# Altium integrated library digital_power.IntLib: 41 symbols
Pins are listed as number, name and electrical type; pins without a type are passive.

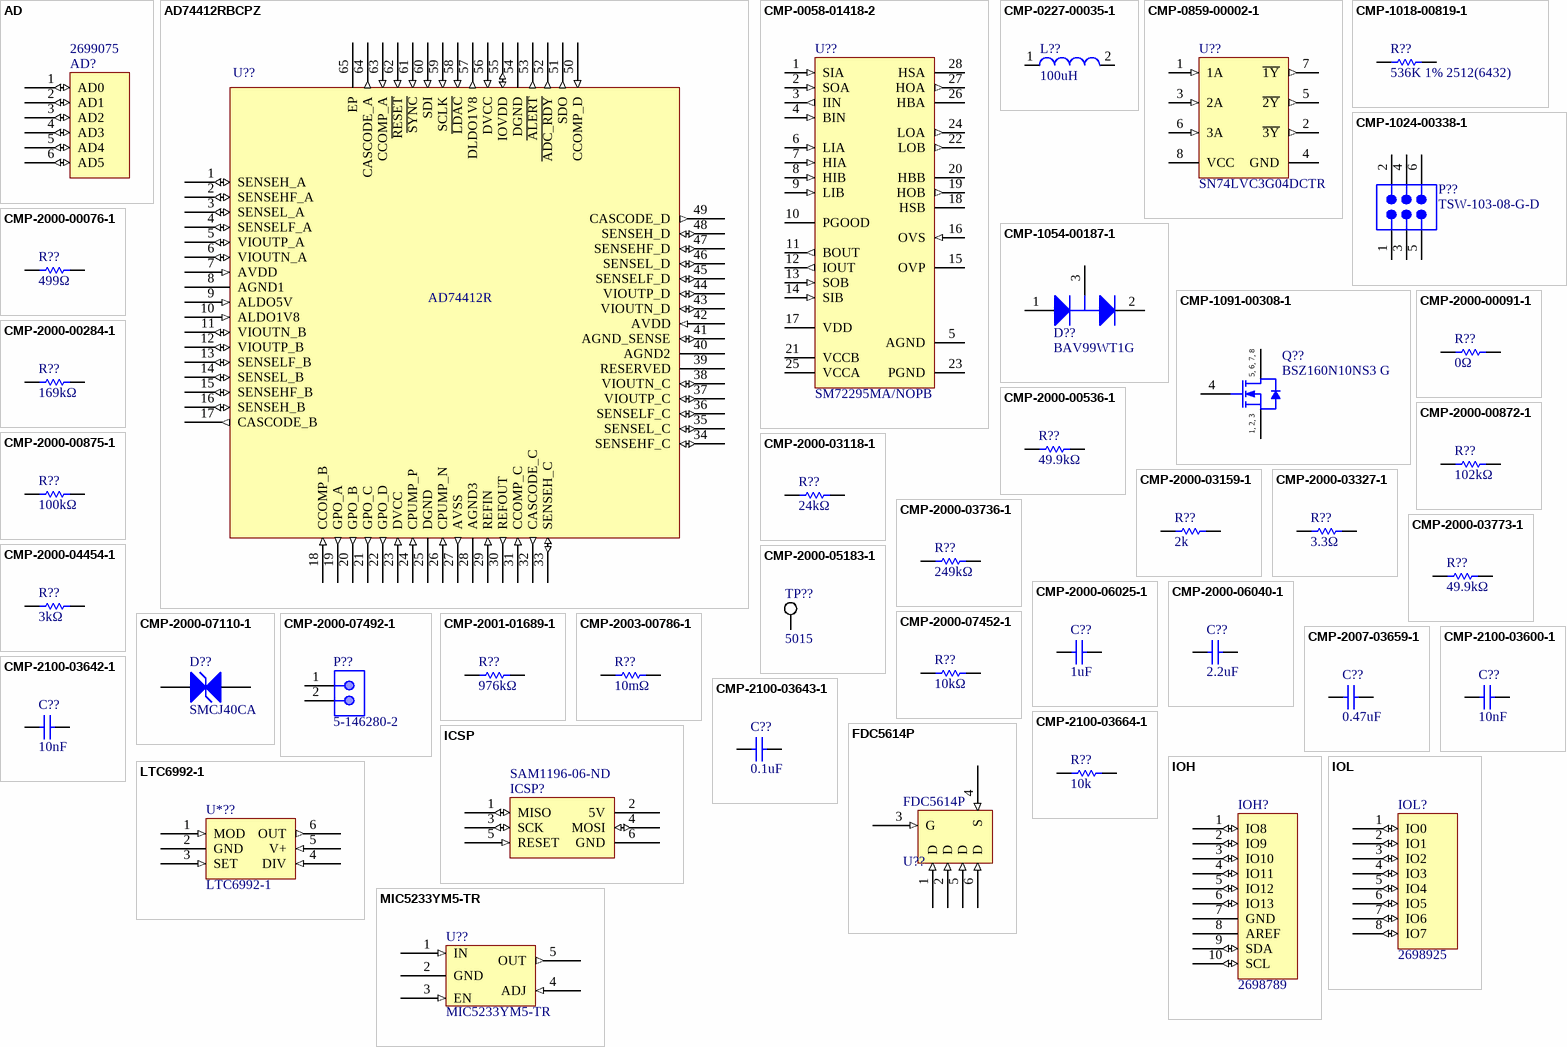
[diagram p0: symbols AD to MIC5233YM5-TR]

## AD
designator AD?  Supplier Part Number 4: 2699075  (hidden comment: AD)
Supplier 1: Arrow; Supplier Part Number 1: 2699089; Supplier 2: Digi-Key; Supplier Part Number 2: SAM1198-06-ND; Supplier 3: Arrow; Supplier Part Number 3: 2699088; Supplier 4: Arrow
footprint Header 6x1 8.5mm (Stackable 6 pin header)
pins: 1 AD0 (io), 2 AD1 (io), 3 AD2 (io), 4 AD3 (io), 5 AD4 (io), 6 AD5 (io)

## AD74412RBCPZ
designator U??, comment AD74412R
Manufacturer 1: Analog Devices; Manufacturer Part Number 1: AD74412RBCPZ; Supplier 1: Digi-Key; Stock 1: 0; Pricing 1: 1=15.06000, 10=13.84000, 25=13.26640, 100=11.68870, 250=11.11504, 500=10.39796, 1000=9.53743 (USD); RoHS: No; Supplier Part Number 1: 505-AD74412RBCPZ-ND
pins: 1 SENSEH_A (io), 2 SENSEHF_A (io), 3 SENSEL_A (io), 4 SENSELF_A (io), 5 VIOUTP_A (io), 6 VIOUTN_A (io), 7 AVDD (in), 8 AGND1 (power), 9 ALDO5V (in), 10 ALDO1V8 (in), 11 VIOUTN_B (io), 12 VIOUTP_B (io), 13 SENSELF_B (io), 14 SENSEL_B (io), 15 SENSEHF_B (io), 16 SENSEH_B (io), 17 CASCODE_B (out), 18 CCOMP_B (in), 19 GPO_A (out), 20 GPO_B (out), 21 GPO_C (out), 22 GPO_D (out), 23 DVCC (in), 24 CPUMP_P (in), 25 DGND (power), 26 CPUMP_N (in), 27 AVSS (out), 28 AGND3 (power), 29 REFIN (in), 30 REFOUT (out), 31 CCOMP_C (in), 32 CASCODE_C (out), 33 SENSEH_C (io), 34 SENSEHF_C (io), 35 SENSEL_C (io), 36 SENSELF_C (io), 37 VIOUTP_C (io), 38 VIOUTN_C (io), 39 RESERVED (power), 40 AGND2 (power), 41 AGND_SENSE (io), 42 AVDD (in), 43 VIOUTN_D (io), 44 VIOUTP_D (io), 45 SENSELF_D (io), 46 SENSEL_D (io), 47 SENSEHF_D (io), 48 SENSEH_D (io), 49 CASCODE_D (out), 50 CCOMP_D (in), 51 SDO (out), 52 ~{ADC_RDY} (out), 53 ~{ALERT} (out), 54 DGND (power), 55 IOVDD (io), 56 DVCC (in), 57 DLDO1V8 (out), 58 ~{LDAC} (in), 59 SCLK (in), 60 SDI (in), 61 ~{SYNC} (in), 62 ~{RESET} (in), 63 CCOMP_A (in), 64 CASCODE_A (out), 65 EP (power)

## CMP-0058-01418-2
designator U??, comment SM72295MA/NOPB
Photovoltaic Full Bridge Driver, 28-pin Wide SOIC, 26 Rail; Manufacturer: Texas Instruments; Manufacturer 1: TI National Semiconductor; CompType: Interface IC; PackageTopMarking: NSUZXYTTE#*S72295; PowerWise: N; High-Reliability: Y; ComponentLink1Description: Datasheet URL; ComponentLink1URL: http://www.ti.com/general/docs/lit/getliterature.tsp?genericPartNumber=SM72295&fileType=pdf; PackageDescription: Molded Package, S.O., .300in Wide, 28 Lead; PinCount: 28; PartNumber: SM72295MA/NOPB; PackageReference: DW0028A; RoHS: Y; Manufacturer Part Number 1: SM72295MA/NOPB
footprint DW0028A_N (SOIC, 28-Leads, Body 18.1x7.6mm, Pitch 1.27mm, IPC Medium Density)
footprint DW0028A_L (SOIC, 28-Leads, Body 18.1x7.6mm, Pitch 1.27mm, IPC High Density)
footprint DW0028A_M (SOIC, 28-Leads, Body 18.1x7.6mm, Pitch 1.27mm, IPC Low Density)
pins: 1 SIA (in) "Sense high input for input current sense transconductance amplifier", 2 SOA (in) "Sense low input for input current sense transconductance amplifier", 3 IIN (out) "Output for current sense transconductance amplifier", 4 BIN (in) "Buffered IIN", 5 AGND (power) "Analog ground", 6 LIA (in) "Low side driver control input", 7 HIA (in) "High side driver control input", 8 HIB (in) "High side driver control input", 9 LIB (in) "Low side driver control input", 10 PGOOD (oc) "Power good indicator output", 11 BOUT (out) "Buffered IOUT", 12 IOUT (out) "Output for current sense comparator.", 13 SOB (in) "Sense low input for output current sense amplifier", 14 SIB (in) "Sense high input for output current sense amplifier", 15 OVP (oc) "Over voltage indicator output", 16 OVS (in) "Sense input for over voltage", 17 VDD (power) "3.3V or 5V regulator output", 18 HSB "High side MOSFET source connection", 19 HOB (out) "High side gate driver output", 20 HBB "High side gate driver bootstrap rail.", 21 VCCB (power) "Positive gate drive supply", 22 LOB (out) "Low side gate driver output", 23 PGND (power) "Power ground return", 24 LOA (out) "Low side gate driver output", 25 VCCA (power) "Positive gate drive supply", 26 HBA "High side gate driver bootstrap rail.", 27 HOA (out) "High side gate driver output", 28 HSA "High side MOSFET source connection"

## CMP-0227-00035-1
designator L??, comment 100uH
SMD-Shielded Power Inductor WE-PD, L = 100 µH; Manufacturer 1: Wurth Electronics; Manufacturer Part Number 1: 7447709101; Inductance: 100 ÂµH; ComponentLink2Description: Datasheet; DatasheetVersion: ver 1, Oct-2004; PackageDescription: SMD Inductor, 2-Leads, Body 12.0 x 12.0 mm; ComponentLink1URL: http://www.we-online.com; PackageVersion: 2004; PackageReference: WE-PD-XXL; ComponentLink2URL: http://www.we-online.de/katalog/media/pdf/7447709101.pdf; ComponentLink1Description: Manufacturer Link
footprint WE-PD-XXL (SMD Inductor, 2-Leads, Body 12.0x12.0x10.0 mm)
pins: 1, 2

## CMP-0859-00002-1
designator U??, comment SN74LVC3G04DCTR
Triple Inverter Gate, 1.65 to 5.5 V, -40 to 125 degC, 8-Pin DCT, Green (RoHS & no Sb/Br), Tape and Reel; Manufacturer: Texas Instruments; VCC (Max): 5.5 V; tpd @ Nom Voltage (Max): 4.1 ns; ICC @ Nom Voltage (Max): 0.01 mA; F @ Nom Voltage (Max): 150 MHz; Bits: 3; VCC (Min): 1.65 V; PackageDescription: 8-Pin Plastic Small Outline, Body 2.95 x 2.8 mm, Pitch 0.65 mm; Mounting Technology: Surface Mount; ComponentLink2URL: http://www.ti.com/lit/ds/symlink/sn74lvc3g04.pdf; PartNumber: SN74LVC3G04DCTR; ComponentLink2Description: Datasheet; Packing: Tape and Reel; ComponentLink1URL: http://www.ti.com/; DatasheetVersion: SCES363L; ComponentLink1Description: Manufacturer URL; RoHS: TRUE; Operating Temperature Range: -40 to 125 degC; PackageReference: DCT-8; Manufacturer 1: Texas Instruments; Manufacturer Part Number 1: SN74LVC3G04DCTR
footprint TI-DCT8_V (SOP, 8-Leads, Body 2.95x2.8mm, Pitch 0.65mm)
pins: 1 1A (in), 2 ~{3Y} (out), 3 2A (in), 4 GND (power), 5 ~{2Y} (out), 6 3A (in), 7 ~{1Y} (out), 8 VCC (power)

## CMP-1018-00819-1
designator R??, comment 536K 1% 2512(6432)
536K 1W 1% 2512 (6432 Metric)  SMD; Manufacturer 1: Panasonic; Manufacturer Part Number 1: ERJ-1TNF5363U; Value: 536000.00 Ohm; Case-Metric: 6432; Case-EIA: 2512; Power: 1 W; Tolerance: 1 %; Technology: SMT; Manufacturer 2: Bourns; Manufacturer Part Number 2: CR2512FX5363ELF; Manufacturer 3: Vishay Dale; Manufacturer Part Number 3: CRCW2512536KFKTG; Manufacturer 4: Vishay; Manufacturer Part Number 4: CRCW2512536KFKTH; Manufacturer 5: Vishay Dale; Manufacturer Part Number 5: CRCW2512536KFKEG
footprint RESC2512(6432)_N (Chip Resistor, Body 6.4x3.2mm, IPC Medium Density)
footprint RESC2512(6432)_M (Chip Resistor, Body 6.4x3.2mm, IPC Low Density)
footprint RESC2512(6432)_L (Chip Resistor, Body 6.4x3.2mm, IPC High Density)
pins: 1, 2
1 alternate drawing of the same symbol

## CMP-1024-00338-1
designator P??, comment TSW-103-08-G-D
0.025" SQ Post Header, Through-hole, Vertical, -55 to 125 degC, 2.54 mm Pitch, 6-Pin, Male, RoHS; Manufacturer: Samtec; Pitch: 2.54 mm; ComponentLink1URL: http://www.samtec.com; ComponentLink2URL: http://www.samtec.com/documents/webfiles/pdf/TSW_TH.PDF; Temperature Range: -55 to 125 degC; RoHS: True; ComponentLink2Description: Datasheet; PackageReference: TSW-103-08-X-D; ComponentLink3Description: Package Specification; PackageDescription: .025[0.64] SQ. Post Terminal Strip Assembly; DatasheetVersion: F-214; Mounting Technology: Through-hole; ComponentLink1Description: Manufacturer URL; Orientation: Vertical; PartNumber: TSW-103-08-G-D; PackageVersion: DM, 8/1988; ComponentLink3URL: http://www.samtec.com/documents/webfiles/cpdf/TSW-XXX-XX-XXX-X-XX-XXX-MKT.pdf; Manufacturer 1: Samtec; Manufacturer Part Number 1: TSW-103-08-G-D
footprint SMTC-TSW-103-08-X-D (.025 SQ Post Terminal Strip Assembly, 2x3 Pins, Vertical, 2.54mm Pitch, Male)
pins: 1, 2, 3, 4, 5, 6

## CMP-1054-00187-1
designator D??, comment BAV99WT1G
Dual Series Switching Diodes, 3-Pin SOT-323, Pb-Free, Tape and Reel; Manufacturer: On Semiconductor; Manufacturer 1: ON Semiconductor / Fairchild; trr Max (ns): 6; IF Max (A): 0.215; Configuration: Dual Series; ComponentLink1Description: Manufacturer URL; ComponentLink1URL: http://www.onsemi.com/; ComponentLink2Description: Datasheet; PackageDescription: 3-Pin Small Outline Transistor, Body 2 x 1.25 mm, Pitch 0.65 mm; PackageReference: SOT-323-3-419-04; ComponentLink3URL: http://www.onsemi.com/pub_link/Collateral/419-04.PDF; Packing: Tape and Reel; ComponentLink3Description: Package Specification; DatasheetVersion: Rev. 7; RoHS: TRUE; ComponentLink2URL: http://www.onsemi.cn/pub_link/Collateral/BAV99WT1-D.PDF; Mounting Technology: Surface Mount; PartNumber: BAV99WT1G; PackageVersion: Rev. N, 11/2008; Manufacturer Part Number 1: BAV99WT1G
footprint ONSC-SOT-323-3-419-04_V (SOT23, 3-Leads, Body 2x1.25mm, Pitch 0.65mm)
pins: 1 A, 2 K, 3 K/A

## CMP-1091-00308-1
designator Q??, comment BSZ160N10NS3 G
N-Channel OptiMOS 3 Power-Transistor, 100 V VDS, 40 A ID, -55 to 150 degC, PG-TSDSON-8-1, Reel, Green; Manufacturer: Infineon; VGS(th) (min): 2Â V; VDS (max): 100Â V; IDpuls (max): 160Â A; Ptot (max): 63Â W; RthJC (max): 2.1Â K/W; RthJA (max): 62 K/W; ID (max): 40Â A; RDS (on) (max): 16Â mOhm; VGS(th) (max): 3.5Â V; QG: 19Â nC; Green: TRUE; Polarity: N; Halogen-free: TRUE; ComponentLink3URL: http://www.infineon.com/dgdl/BSZ240N12NS3+Rev2.0.pdf?folderId=db3a304313b8b5a60113cee8763b02d7&fileId=db3a30432a40a650012a42f3057a0038; PackageReference: PG-TSDSON-8-1; PartNumber: BSZ160N10NS3 G; Packing: Reel; Mounting Technology: Surface Mount; Rth: 2.1Â K/W; PackageVersion: Rev. 02, 09/2008; DatasheetVersion: Rev. 1.2; ComponentLink3Description: Package Specification; ComponentLink2URL: http://www.infineon.com/dgdl/BSZ160N10N3SG_rev1.2.pdf?folderId=db3a304313b8b5a60113cee8763b02d7&fileId=db3a304320896aa20120c3365eef2370; ComponentLink1Description: Manufacturer URL; ComponentLink2Description: Datasheet; ComponentLink1URL: http://www.infineon.com/; PackageDescription: 8-Pin Plastic (Green) Thin Dual Small Outline Non-Leaded Package, 3.3 x 3.3 mm Body, 0.65 mm Pitch; Manufacturer 1: Infineon; Manufacturer Part Number 1: BSZ160N10NS3G
footprint INF-PG-TSDSON-8-1_V (TSDSON, 8-Leads, Body 3.3x3.3mm, Pitch 0.65mm)
pins: 1 SOURCE, 2 SOURCE, 3 SOURCE, 4 GATE, 5 DRAIN, 6 DRAIN, 7 DRAIN, 8 DRAIN
text: 5, 6, 7, 8; 1, 2, 3

## CMP-2000-00076-1
designator R??, comment 499Ω
ERA3AEB4990V; Manufacturer: Panasonic; Manufacturer Part Number 1: ERA-3AEB4990V; Part Number: ERA3AEB4990V; Manufacturer 1: Panasonic
footprint RESC1608X55X30LL20T20 (Chip Resistor, 2-Leads, Body 1.60x0.80mm, IPC High Density)
footprint RESC1608X55X30ML20T20 (Chip Resistor, 2-Leads, Body 1.60x0.80mm, IPC Low Density)
footprint RESC1608X55X30NL20T20 (Chip Resistor, 2-Leads, Body 1.60x0.80mm, IPC Medium Density)
pins: 1, 2
1 alternate drawing of the same symbol

## CMP-2000-00091-1
designator R??, comment 0Ω
ERA3AEB561V; Manufacturer: Panasonic; Part Number: ERA3AEB561V; Manufacturer 1: Panasonic; Manufacturer Part Number 1: ERA3AEB561V
footprint RESC1608X55X30LL20T20 (Chip Resistor, 2-Leads, Body 1.60x0.80mm, IPC High Density)
footprint RESC1608X55X30NL20T20 (Chip Resistor, 2-Leads, Body 1.60x0.80mm, IPC Medium Density)
footprint RESC1608X55X30ML20T20 (Chip Resistor, 2-Leads, Body 1.60x0.80mm, IPC Low Density)
pins: 1, 2
1 alternate drawing of the same symbol

## CMP-2000-00284-1
designator R??, comment 169kΩ
ERJ-3EKF1693V; Manufacturer: Panasonic; Part Number: ERJ-3EKF1693V; Manufacturer 1: Panasonic; Manufacturer Part Number 1: ERJ-3EKF1693V
footprint RESC1608X55X30ML15T15 (Chip Resistor, 2-Leads, Body 1.60x0.80mm, IPC Low Density)
footprint RESC1608X55X30NL15T15 (Chip Resistor, 2-Leads, Body 1.60x0.80mm, IPC Medium Density)
footprint RESC1608X55X30LL15T15 (Chip Resistor, 2-Leads, Body 1.60x0.80mm, IPC High Density)
pins: 1, 2
1 alternate drawing of the same symbol

## CMP-2000-00536-1
designator R??, comment 49.9kΩ
ERJ-3EKF4992V; Manufacturer: Panasonic; Part Number: ERJ-3EKF4992V; Manufacturer 1: Panasonic; Manufacturer Part Number 1: ERJ-3EKF4992V
footprint RESC1608X55X30ML15T15 (Chip Resistor, 2-Leads, Body 1.60x0.80mm, IPC Low Density)
footprint RESC1608X55X30NL15T15 (Chip Resistor, 2-Leads, Body 1.60x0.80mm, IPC Medium Density)
footprint RESC1608X55X30LL15T15 (Chip Resistor, 2-Leads, Body 1.60x0.80mm, IPC High Density)
pins: 1, 2
1 alternate drawing of the same symbol

## CMP-2000-00872-1
designator R??, comment 102kΩ
ERA3AEB1023V; Manufacturer: Panasonic; Manufacturer Part Number 1: ERA-3AEB1023V; Part Number: ERA3AEB1023V; Manufacturer 1: Panasonic
footprint RESC1608X55X30NL20T20 (Chip Resistor, 2-Leads, Body 1.60x0.80mm, IPC Medium Density)
footprint RESC1608X55X30LL20T20 (Chip Resistor, 2-Leads, Body 1.60x0.80mm, IPC High Density)
footprint RESC1608X55X30ML20T20 (Chip Resistor, 2-Leads, Body 1.60x0.80mm, IPC Low Density)
pins: 1, 2
1 alternate drawing of the same symbol

## CMP-2000-00875-1
designator R??, comment 100kΩ
ERA3AEB104V; Manufacturer: Panasonic; Manufacturer Part Number 1: ERA-3AEB104V; Part Number: ERA3AEB104V; Manufacturer 1: Panasonic
footprint RESC1608X55X30ML20T20 (Chip Resistor, 2-Leads, Body 1.60x0.80mm, IPC Low Density)
footprint RESC1608X55X30LL20T20 (Chip Resistor, 2-Leads, Body 1.60x0.80mm, IPC High Density)
footprint RESC1608X55X30NL20T20 (Chip Resistor, 2-Leads, Body 1.60x0.80mm, IPC Medium Density)
pins: 1, 2
1 alternate drawing of the same symbol

## CMP-2000-03118-1
designator R??, comment 24kΩ
CRCW060324K0FKEA; Manufacturer: Vishay Dale; Manufacturer 1: Vishay; Part Number: CRCW060324K0FKEA; Manufacturer Part Number 1: CRCW060324K0FKEA
footprint RESC1609X50X30NL10T20 (Chip Resistor, 2-Leads, Body 1.55x0.85mm, IPC Medium Density)
footprint RESC1609X50X30LL10T20 (Chip Resistor, 2-Leads, Body 1.55x0.85mm, IPC High Density)
footprint RESC1609X50X30ML10T20 (Chip Resistor, 2-Leads, Body 1.55x0.85mm, IPC Low Density)
pins: 1, 2
1 alternate drawing of the same symbol

## CMP-2000-03159-1
designator R??, comment 2k
CRCW06032K00FKEA; Manufacturer: Vishay Dale; Manufacturer 1: Vishay; Part Number: CRCW06032K00FKEA; Manufacturer Part Number 1: CRCW06032K00FKEA
footprint RESC1609X50X30ML10T20 (Chip Resistor, 2-Leads, Body 1.55x0.85mm, IPC Low Density)
footprint RESC1609X50X30LL10T20 (Chip Resistor, 2-Leads, Body 1.55x0.85mm, IPC High Density)
footprint RESC1609X50X30NL10T20 (Chip Resistor, 2-Leads, Body 1.55x0.85mm, IPC Medium Density)
pins: 1, 2
1 alternate drawing of the same symbol

## CMP-2000-03327-1
designator R??, comment 3.3Ω
CRCW06033R30FNEA; Manufacturer: Vishay Dale; Part Number: CRCW06033R30FNEA; Manufacturer 1: Vishay Dale; Manufacturer Part Number 1: CRCW06033R30FNEA
footprint RESC1609X50X30LL10T20 (Chip Resistor, 2-Leads, Body 1.55x0.85mm, IPC High Density)
footprint RESC1609X50X30NL10T20 (Chip Resistor, 2-Leads, Body 1.55x0.85mm, IPC Medium Density)
footprint RESC1609X50X30ML10T20 (Chip Resistor, 2-Leads, Body 1.55x0.85mm, IPC Low Density)
pins: 1, 2
1 alternate drawing of the same symbol

## CMP-2000-03736-1
designator R??, comment 249kΩ
TNPW0603249KBEEA; Manufacturer: Vishay Dale; Part Number: TNPW0603249KBEEA; Manufacturer 1: Vishay Dale; Manufacturer Part Number 1: TNPW0603249KBEEA
footprint RESC1609X55X30LL10T20 (Chip Resistor, 2-Leads, Body 1.60x0.85mm, IPC High Density)
footprint RESC1609X55X30ML10T20 (Chip Resistor, 2-Leads, Body 1.60x0.85mm, IPC Low Density)
footprint RESC1609X55X30NL10T20 (Chip Resistor, 2-Leads, Body 1.60x0.85mm, IPC Medium Density)
pins: 1, 2
1 alternate drawing of the same symbol

## CMP-2000-03773-1
designator R??, comment 49.9kΩ
TNPW060349K9BEEN; Manufacturer: Vishay Dale; Part Number: TNPW060349K9BEEN; Manufacturer 1: Vishay Dale; Manufacturer Part Number 1: TNPW060349K9BEEN
footprint RESC1609X55X30ML10T20 (Chip Resistor, 2-Leads, Body 1.60x0.85mm, IPC Low Density)
footprint RESC1609X55X30LL10T20 (Chip Resistor, 2-Leads, Body 1.60x0.85mm, IPC High Density)
footprint RESC1609X55X30NL10T20 (Chip Resistor, 2-Leads, Body 1.60x0.85mm, IPC Medium Density)
pins: 1, 2
1 alternate drawing of the same symbol

## CMP-2000-04454-1
designator R??, comment 3kΩ
RT0603BRD073KL; Manufacturer: Yageo; Part Number: RT0603BRD073KL; Manufacturer 1: Yageo; Manufacturer Part Number 1: RT0603BRD073KL
footprint RESC1608X55X25ML10T15 (Chip Resistor, 2-Leads, Body 1.60x0.80mm, IPC Low Density)
footprint RESC1608X55X25NL10T15 (Chip Resistor, 2-Leads, Body 1.60x0.80mm, IPC Medium Density)
footprint RESC1608X55X25LL10T15 (Chip Resistor, 2-Leads, Body 1.60x0.80mm, IPC High Density)
pins: 1, 2
1 alternate drawing of the same symbol

## CMP-2000-05183-1
designator TP??, comment 5015
Test Point, White, SMT; Manufacturer: Keystone; Manufacturer 1: Keystone Electronics; Primary Type: PCBTestPoints; Style: Miniature; Finish Plating: SilverPlate; Material, Contact: PhosphorBronze; Material: PhosphorBronze; Datasheet URL: https://datasheet.ciiva.com/1123/5015-1123862.pdf; Thickness: 0.010In.; Manufacturer URL: http://www.keyelco.com/; Length: 0.105"(2.667mm); Datasheet Version: Mar-14; Contact Plating: Silver; Mounting Type: SurfaceMount; Termination: SMT; Type: TestPointsonTapeandReel; Height: 0.06In.; Mounting: SurfaceMount; Manufacturer Part Number 1: 5015
footprint KSTN-5015_V (SMD, Body 2.63x1.02mm)
pins: 1

## CMP-2000-06025-1
designator C??, comment 1uF
C1608X5R1H105K080AB- Chip Capacitor, 1 uF, +/- 10%, 50 V, -55 to 85 degC, 0603 (1608 Metric), RoHS, Tape and Reel; Manufacturer: TDK; PCN Part Number: MLCCPartNumberChange30/Nov/2012; Other Names: 445-7468-6; Online Catalog: CSeries,GeneralPurpose; Capacitance: 1µF; Product Training Modules: CSeriesGeneralApplicationsSEAT,CCV,andTVCLDesignToolsGuidetoReplacinganElectrolyticCapacitorwithanMLCC; Voltage - Rated: 50V; Design Resources: 20WNon-IsolatedBuckLEDDriverUsingPLLNK460KG; Temperature Coefficient: X5R; Series: C; Datasheet Version: 08/2016; Package Description: 2-Pin Surface Mount Device, Body 1.6 x 0.8 mm; Mounting Technology: SurfaceMount; Features: -; Size / Dimension: 0.063"Lx0.031"W(1.60mmx0.80mm); Lead Spacing: -; Operating Temperature: -55°C~85°C; Tolerance: ±10%; Height - Seated (Max): -; Mounting Type: SurfaceMount,MLCC; Ratings: -; Standard Package: 1; Applications: GeneralPurpose; Datasheet URL: https://product.tdk.com/info/en/catalog/datasheets/mlcc_commercial_general_en.pdf; Category: Capacitors; Lead Style: -; Packaging: Digi-Reel®; RoHS Information: RoHSCertificate-MLCC; Package / Case: 0603(1608Metric); Package Reference: 0603; Manufacturer URL: http://www.tdk.com/; Thickness (Max): 0.035"(0.90mm); Family: CeramicCapacitors; Manufacturer 1: TDK; Manufacturer Part Number 1: C1608X5R1H105K080AB
footprint CAPC1608X90X20LL10 (Chip Capacitor, 2-Leads, Body 1.70x0.90mm, IPC High Density)
footprint CAPC1608X90X20ML10 (Chip Capacitor, 2-Leads, Body 1.70x0.90mm, IPC Low Density)
footprint CAPC1608X90X20NL10 (Chip Capacitor, 2-Leads, Body 1.70x0.90mm, IPC Medium Density)
pins: 1, 2

## CMP-2000-06040-1
designator C??, comment 2.2uF
C2012X7R1H225K125AC -Chip Capacitor, 2.2 uF, +/- 10%, 50 V, -55 to 125 degC, 0805 (2012 Metric), RoHS, Tape and Reel; Manufacturer: TDK; PCN Part Number: MLCCPartNumberChange30/Nov/2012; Other Names: 445-5968-1; Temperature Coefficient: X7R; Catalog Drawings: CSERIES_2012-0805_1.45; Kits: 445-9015-KIT-ND-KITMLCC1000PF-47UF080510-50V445-9003-KIT-ND-KITCAPCERHICAPMLCCSMD445-173086-KIT-ND-C0402-2220X7R6.3-50V1,000PF-; Online Catalog: CSeries,GeneralPurpose; Voltage - Rated: 50V; Capacitance: 2.2µF; Product Training Modules: CSeriesGeneralApplicationsSEAT,CCV,andTVCLDesignToolsGuidetoReplacinganElectrolyticCapacitorwithanMLCC; Operating Temperature: -55°C~125°C; Features: -; Tolerance: ±10%; Datasheet URL: https://datasheet.ciiva.com/24216/c2012x7r1h225k125ac-265016-24216364.pdf; Lead Style: -; Size / Dimension: 0.079"Lx0.049"W(2.00mmx1.25mm); Mounting Technology: SurfaceMount; Package Reference: 0805; Thickness (Max): 0.057"(1.45mm); RoHS Information: RoHSCertificate-MLCC; Height - Seated (Max): -; Manufacturer URL: http://www.tdk.com/; Standard Package: 1; Category: Capacitors; Package Description: 2-Pin Surface Mount Device, Body 2 x 1.25 mm; Packaging: CutTape(CT); Series: C; Applications: GeneralPurpose; Package / Case: 0805(2012Metric); Ratings: -; Datasheet Version: 09/2013; Family: CeramicCapacitors; Mounting Type: SurfaceMount,MLCC; Lead Spacing: -; Manufacturer 1: TDK; Manufacturer Part Number 1: C2012X7R1H225K125AC
footprint CAPC2013X145X20LL20 (Chip Capacitor, 2-Leads, Body 2.20x1.45mm, IPC High Density)
footprint CAPC2013X145X20ML20 (Chip Capacitor, 2-Leads, Body 2.20x1.45mm, IPC Low Density)
footprint CAPC2013X145X20NL20 (Chip Capacitor, 2-Leads, Body 2.20x1.45mm, IPC Medium Density)
pins: 1, 2

## CMP-2000-07110-1
designator D??, comment SMCJ40CA
Transient Voltage Suppressor, 1500 W, 40 V, 2-Pin SMD, RoHS, Tape and Reel; Manufacturer: Fairchild Semiconductor; Manufacturer 1: Littelfuse; Type: TRANSVOLTAGESUPPRESSORDIODE; Breakdown Voltage-Max (V): 49.1; Number of Elements: 1; Breakdown Voltage-Min (V): 44.4; Non-rep Peak Rev Power Dis-Max (W): 1500; Additional Feature: ULRECOGNIZED; Diode Element Material: SILICON; Configuration: SINGLE; Package Body Material: PLASTIC/EPOXY; Polarity: BIDIRECTIONAL; JEDEC-95 Code: DO-214AB; CAGE Code: 1HBD3,07933,59621,7D893; Number of Terminals: 2; Package Description: 2-Pin Surface Mount Device, Body 6.875 x 5.9 mm; Terminal Position: DUAL; Terminal Finish: MATTETIN; Package Style: SMALLOUTLINE; Datasheet Version: Rev. 5.7, 09/2015; Datasheet URL: https://www.fairchildsemi.com/datasheets/SM/SMCJ40CA.pdf; Technology: AVALANCHE; Peak Reflow Temperature (Cel): 260; Manufacturer URL: https://www.fairchildsemi.com/; RoHS Compliant: YES; JESD-30 Code: R-PDSO-C2; Moisture Sensitivity Level: 1; Package Shape: RECTANGULAR; Terminal Form: CBEND; Mounting Technology: SurfaceMount; Lead Free: YES; Package Reference: DO-214AB; Surface Mount: YES; JESD-97 Code: e3; Manufacturer Part Number 1: SMCJ40CA
footprint FAIR-DO-214AB-A-2_V (Molded Diode, 2-Leads, Body 7.15x6.25mm)
pins: 1 A, 2 A

## CMP-2000-07452-1
designator R??, comment 10kΩ
ERJ3EKF1002V - Chip Resistor, 10 KOhm, +/- 1%, 0.1 W, -55 to 155 degC, 0603 (1608 Metric), RoHS, Tape and Reel; Manufacturer: Panasonic; Manufacturer Part Number 1: ERJ-3EKF1002V; Voltage Rating: 75V; Case\/Package: 0603; Power Rating: 100mW; Resistance: 10KOhm; Temperature Coefficient: 100ppm\/degreesC; Number of Pins: 2; Package Reference: 603; Depth: 0.8mm; Mount: SurfaceMount; Package Description: 2-Pin Surface Mount Device, Body 1.6 x 0.85 mm; Datasheet Version: 02/2017; Length: 1.6mm; Lead Free: LeadFree; Height: 0.45mm; Number of Terminations: 2; Max Power Dissipation: 100mW; Min Operating Temperature: -55degC; Datasheet URL: https://industrial.panasonic.com/cdbs/www-data/pdf/RDA0000/AOA0000C304.pdf; Termination: SMD/SMT; Case Code (Metric): 1608; Case Code (Imperial): 0603; Tolerance: 1%; Max Operating Temperature: 155degC; RoHSCompliant: true; Voltage Rating (DC): 75V; Radiation Hardening: No; Packaging: TapeandReel; Composition: ThickFilm; Mounting Technology: SurfaceMount; Manufacturer URL: http://www.panasonic.com/; Width: 0.031inch; REACH SVHC: NoSVHC; Contact Plating: Tin; Military Standard: Not; Package Quantity: 1; Manufacturer 1: Panasonic
footprint RESC1609X55X30LL15T15 (Chip Resistor, 2-Leads, Body 1.75x0.95mm, IPC High Density)
footprint RESC1609X55X30ML15T15 (Chip Resistor, 2-Leads, Body 1.75x0.95mm, IPC Low Density)
footprint RESC1609X55X30NL15T15 (Chip Resistor, 2-Leads, Body 1.75x0.95mm, IPC Medium Density)
pins: 1, 2

## CMP-2000-07492-1
designator P??, comment 5-146280-2
Male Header, Pitch 2.54 mm, 1 x 2 Position, Height 8.21 mm, Tail Length 3.05 mm, -65 to 105 degC, RoHS, Bulk; Manufacturer: TE Connectivity; Mating Connector Lock: No(Without); Number of Positions: 2; Pitch: 2.54mm; PCB Mounting Orientation: Vertical; Keyed: No; Case\/Package: 100; Mating Post Length: 0.23inch; High Temperature Housing: Yes; Max Current Rating: 5A; PCB Thickness: 0.063inch; PCB Mount Retention: Without; Approvals: CSA; Current Rating: 3A; Radiation Hardening: No; Length: 4.67mm; Contact Mating Length: 0.23inch; Connector Type: Header; Number of Rows: 1; Termination Post Length: 0.12inch; Board Standoff: No(Without); Max Operating Temperature: 105degC; Contact Shape: Square; Selectively Loaded: No(Without); Gasket: No(Without); Number of Contacts: 2; Contact Gender: Male; Mating Alignment: No(Without); Manufacturer URL: http://www.te.com/; Datasheet URL: http://www.te.com/commerce/DocumentDelivery/DDEController?Action=showdoc&DocId=Customer+Drawing%7F146280%7FH1%7Fpdf%7FEnglish%7FENG_CD_146280_H1.pdf%7F5-146280-2; Mount: ThroughHole; Orientation: Straight; Packaging: Carton; Package Reference: 5-146280-2; Package Quantity: 500; Stabilizers: No(Without); Row Spacing: 2.54mm; Contact Material: CopperAlloy; Panel Mount Retention: No(Without); Datasheet Version: Rev. H1, 08/2016; Housing Colour: Black; Colour: Black; Package Description: Male Header, Pitch 2.54 mm, 1 x 2 Position, Height 8.21 mm, Tail Length 3.05 mm; Contact Plating: Matte; Housing Material: Polymer; Contact Protection: No(Without); Min Operating Temperature: -65degC; Mounting Technology: ThroughHole; Flammability Rating: UL94V-0; RoHSCompliant: true; Termination: ThroughHole; Depth: 2.34mm; High Speed Serial Data Connector: No; Manufacturer 1: TE Connectivity; Manufacturer Part Number 1: 5-146280-2
footprint TECO-5-146280-2_V (Connector, 2-Leads, Body 4.67x2.34mm, Pitch 2.54mm)
pins: 1, 2

## CMP-2001-01689-1
designator R??, comment 976kΩ
RT0805BRD07976KL; Manufacturer: Yageo; Part Number: RT0805BRD07976KL; Manufacturer 1: Yageo; Manufacturer Part Number 1: RT0805BRD07976KL
footprint RESC2013X60X35LL10T20 (Chip Resistor, 2-Leads, Body 2.00x1.25mm, IPC High Density)
footprint RESC2013X60X35NL10T20 (Chip Resistor, 2-Leads, Body 2.00x1.25mm, IPC Medium Density)
footprint RESC2013X60X35ML10T20 (Chip Resistor, 2-Leads, Body 2.00x1.25mm, IPC Low Density)
pins: 1, 2
1 alternate drawing of the same symbol

## CMP-2003-00786-1
designator R??, comment 10mΩ
ERJ8CWFR010V; Manufacturer: Panasonic; Part Number: ERJ8CWFR010V; Manufacturer 1: Panasonic; Manufacturer Part Number 1: ERJ8CWFR010V
footprint RESC3216X70X50NL05T20 (Chip Resistor, 2-Leads, Body 3.20x1.60mm, IPC Medium Density)
footprint RESC3216X70X50LL05T20 (Chip Resistor, 2-Leads, Body 3.20x1.60mm, IPC High Density)
pins: 1, 2
1 alternate drawing of the same symbol

## CMP-2007-03659-1
designator C??, comment 0.47uF
C0805C474K5RACTU; Manufacturer: Kemet; Part Number: C0805C474K5RACTU; Manufacturer 1: KEMET; Manufacturer Part Number 1: C0805C474K5RACTU
footprint CAPC2013X110X50NL20T25 (Chip Capacitor, 2-Leads, Body 2.00x1.25mm, IPC Medium Density)
footprint CAPC2013X110X50LL20T25 (Chip Capacitor, 2-Leads, Body 2.00x1.25mm, IPC High Density)
footprint CAPC2013X110X50ML20T25 (Chip Capacitor, 2-Leads, Body 2.00x1.25mm, IPC Low Density)
pins: 1, 2
1 alternate drawing of the same symbol

## CMP-2100-03600-1
designator C??, comment 10nF
CC0603KRX7R9BB103 - Chip Capacitor, 10 nF, +/- 10%, 50 V, -55 to 125 degC, 0603 (1608 Metric), RoHS, Tape and Reel; Manufacturer: Yageo; Insulation Resistance: 100GR; Dielectric: X7R; Voltage Rating (DC): 50V; Material: Ceramic; Lead Free: LeadFree; Case/Package: 0603; Datasheet Version: Rev. 15, 10/2016; Composition: Ceramic; Radiation Hardening: No; Thickness: 0.035inch; RoHSCompliant: True; Termination: SMD/SMT; Capacitance: 10nF; Manufacturer URL: http://www.yageo.com/; Tolerance: 10%; REACH SVHC: NoSVHC; Voltage: 50V; Max Operating Temperature: 125degC; Case Code (Metric): 1608; Package Quantity: 1; Case Code (Imperial): 0603; Packaging: TapeandReel; Package Reference: 0603; Width: 0.031inch; Datasheet URL: http://www.yageo.com/documents/recent/UPY-GPHC_X7R_6.3V-to-50V_15.pdf; Length: 1.6mm; Min Operating Temperature: -55degC; Number of Pins: 2; Depth: 0.8mm; Mount: SurfaceMount; Height: 0.8mm; Voltage Rating: 50V; Package Description: 2-Pin Surface Mount Device, Body 1.6 x 0.8 mm; Manufacturer 1: Yageo; Manufacturer Part Number 1: CC0603KRX7R9BB103
footprint CAPC1608X90X40ML10T20 (Chip Capacitor, 2-Leads, Body 1.7x0.9mm, IPC Low Density)
footprint CAPC1608X90X40NL10T20 (Chip Capacitor, 2-Leads, Body 1.60x0.80mm, IPC Medium Density)
footprint CAPC1608X90X40LL10T20 (Chip Capacitor, 2-Leads, Body 1.60x0.80mm, IPC High Density)
pins: 1, 2

## CMP-2100-03642-1
designator C??, comment 10nF
GRM188R71H103KA01D - Chip Capacitor, 10 nF, +/- 10%, 50 V, -55 to 125 degC, 0603 (1608 Metric), RoHS, Tape and Reel; Manufacturer: Murata; Insulation Resistance: 10GR; Dielectric: X7R; Voltage Rating: 50V; Material: Ceramic; Package Quantity: 1; Lead Free: LeadFree; Case/Package: 0603; Termination: SMD/SMT; REACH SVHC: Unknown; Manufacturer URL: http://www.murata.com/; Datasheet URL: http://search.murata.co.jp/Ceramy/image/img/A01X/G101/ENG/GRM188R71H103KA01-01.pdf; Mount: SurfaceMount; Datasheet Version: 42401.0; Number of Pins: 2; Length: 1.6mm; Voltage: 50V; Depth: 0.8mm; Tolerance: 10%; Min Operating Temperature: -55degC; Voltage Rating (DC): 50V; Max Operating Temperature: 125degC; Package Description: 2-Pin Surface Mount Device, Body 1.6 x 0.8 mm; RoHSCompliant: True; Case Code (Imperial): 0603; Width: 0.031inch; Case Code (Metric): 1608; Height: 0.8mm; Package Reference: 0603; Packaging: TapeandReel; Thickness: 0.035inch; Capacitance: 10nF; Dielectric Material: Ceramic; Manufacturer 1: Murata; Manufacturer Part Number 1: GRM188R71H103KA01D
footprint CAPC1608X90X35ML10T15 (Chip Capacitor, 2-Leads, Body 1.7x0.9mm, IPC Low Density)
footprint CAPC1608X90X35NL10T15 (Chip Capacitor, 2-Leads, Body 1.7x0.9mm, IPC Medium Density)
footprint CAPC1608X90X35LL10T15
pins: 1, 2

## CMP-2100-03643-1
designator C??, comment 0.1uF
GRM188R71H104KA93D - Chip Capacitor, 0.1 uF, +/- 10%, 50 V, -55 to 125 degC, 0603 (1608 Metric), RoHS, Tape and Reel; Manufacturer: Murata; Dielectric Material: Ceramic; Voltage Rating: 50V; Capacitance: 100nF; Dielectric: X7R; Insulation Resistance: 10GR; Case Code (Metric): 1608; Lead Free: LeadFree; Depth: 0.8mm; Number of Pins: 2; Radiation Hardening: No; Case/Package: 0603; Manufacturer URL: http://www.murata.com/; Packaging: TapeandReel; Length: 1.6mm; Contact Plating: Tin; Datasheet URL: http://psearch.en.murata.com/capacitor/product/GRM188R71H104KA93%23.pdf; Tolerance: 10%; Case Code (Imperial): 0603; Min Operating Temperature: -55degC; RoHSCompliant: true; Voltage: 50V; Termination: SMD/SMT; Mount: SurfaceMount; Material: Ceramic; Package Quantity: 1; Height: 0.8mm; Thickness: 0.035inch; REACH SVHC: NoSVHC; Max Operating Temperature: 125degC; Width: 0.8mm; Package Reference: 0603; Voltage Rating (DC): 50V; Datasheet Version: 42675.0; Package Description: 2-Pin Surface Mount Device, Body 1.6 x 0.8 mm; Manufacturer 1: Murata; Manufacturer Part Number 1: GRM188R71H104KA93D
footprint CAPC1608X90X35ML10T15 (Chip Capacitor, 2-Leads, Body 1.7x0.9mm, IPC Low Density)
footprint CAPC1608X90X35NL10T15 (Chip Capacitor, 2-Leads, Body 1.7x0.9mm, IPC Medium Density)
footprint CAPC1608X90X35LL10T15
pins: 1, 2

## CMP-2100-03664-1
designator R??, comment 10k
RC0603FR-0710KL - Chip Resistor, 10 KOhm, +/- 1%, 01 W, -55 to 155 degC, 0603 (1608 Metric), RoHS, Tape and Reel; Manufacturer: Yageo; Temperature Coefficient: 100ppm/degreesC; Resistance: 10KOhm; Voltage Rating: 75V; Power Rating: 100mW; Voltage Rating (DC): 50V; Composition: ThickFilm; RoHSCompliant: true; Height: 0.45mm; Lead Free: LeadFree; Case Code (Metric): 1608; Case/Package: 0603; Datasheet Version: Rev. 5, 10/2016; Package Reference: 0603; Depth: 0.8mm; Package Description: 2-Pin Surface Mount Device, Body 1.6 x 0.8 mm; Case Code (Imperial): 0603; Packaging: TapeandReel; Termination: SMD/SMT; Lead Pitch: 0.3mm; Width: 0.8mm; Number of Pins: 2; Length: 1.6mm; REACH SVHC: NoSVHC; Military Standard: Not; Max Operating Temperature: 155degC; Min Operating Temperature: -55degC; Manufacturer URL: http://www.yageo.com/; Datasheet URL: http://www.yageo.com/NewPortal/yageodocoutput?fileName=/pdf/R-Chip/PYu-RC_Group_51_RoHS_L_5.pdf; Weight: 7.1E-05oz; Tolerance: 1%; Manufacturer 1: Yageo; Manufacturer Part Number 1: RC0603FR-0710KL
footprint RESC1608X55X25ML10T15 (Chip Resistor, 2-Leads, Body 1.60x0.80mm, IPC Low Density)
footprint RESC1608X55X25NL10T15 (Chip Resistor, 2-Leads, Body 1.70x0.90mm, IPC Medium Density)
footprint RESC1608X55X25LL10T15 (Chip Resistor, 2-Leads, Body 1.60x0.80mm, IPC High Density)
pins: 1, 2

## FDC5614P
designator U??
MOSFET P-CH 60V 3A SSOT-6; Manufacturer 1: ON Semiconductor / Fairchild; Rds On Max: 105mR; Input Capacitance: 759pF; Rise Time: 10ns; Max Power Dissipation: 1.6W; Turn-Off Delay Time: 19ns; Element Configuration: Single; Drain to Source Breakdown Voltage: -60V; Gate to Source Voltage (Vgs): 20V; Number of Elements: 1; Turn-On Delay Time: 7ns; Nominal Vgs: -1.6V; Current Rating: -3A; Current: 2A; Supplier 1: Digi-Key; Manufacturer Part Number 1: FDC5614P; Stock 1: 81040; Pricing 1: 1=0.60000, 10=0.51300, 100=0.38330, 500=0.30116, 1000=0.23271 (USD); RoHS: Yes; Mount: Surface Mount; Case/Package: SOT-23-6; Number of Pins: 6; Contact Plating: Tin,Matte; Min Operating Temperature: -55°C; Max Operating Temperature: 150°C; Packaging: Tape and Reel; Package Quantity: 1; Drain to Source Voltage (Vdss): 60V; Continuous Drain Current (ID): 3A; Fall Time: 10ns; Drain to Source Resistance: 105mR; Power Dissipation: 1.6W; Voltage Rating (DC): -60V; On-State Resistance: 105MR; Threshold Voltage: -1.6V; Voltage: 60V; Length: 3mm; Height: 1mm; Width: 1.7mm; Radiation Hardening: No; Lead Free: Lead Free; REACH SVHC: No SVHC; ComponentLink1URL: https://datasheet.ciiva.com/932/fdc5614p-932400.pdf?src-supplier=Digi-Key; ComponentLink1Description: https://datasheet.ciiva.com/932/fdc5614p-932400.pdf?src-supplier=Digi-Key; ComponentLink2URL: https://datasheet.ciiva.com/22655/11835-22655267.pdf?src-supplier=Element14; ComponentLink2Description: https://datasheet.ciiva.com/22655/11835-22655267.pdf?src-supplier=Element14; ComponentLink3URL: https://datasheet.ciiva.com/34302/1222393-34302115.pdf?src-supplier=Jameco; ComponentLink3Description: https://datasheet.ciiva.com/34302/1222393-34302115.pdf?src-supplier=Jameco; ComponentLink4URL: https://datasheet.ciiva.com/932/fdc5614p-932401.pdf?src-supplier=Digi-Key; ComponentLink4Description: https://datasheet.ciiva.com/932/fdc5614p-932401.pdf?src-supplier=Digi-Key; ComponentLink5URL: https://datasheet.ciiva.com/6172/fdc5614p-6172565.pdf?src-supplier=Farnell; ComponentLink5Description: https://datasheet.ciiva.com/6172/fdc5614p-6172565.pdf?src-supplier=Farnell; ComponentLink6URL: https://datasheet.ciiva.com/16741/fdc5614p-16741301.pdf?src-supplier=Future+Electronics; ComponentLink6Description: https://datasheet.ciiva.com/16741/fdc5614p-16741301.pdf?src-supplier=Future+Electronics; ComponentLink7URL: https://datasheet.ciiva.com/26144/fdc5614p-26144149.pdf?src-supplier=Avnet+Europe; ComponentLink7Description: https://datasheet.ciiva.com/26144/fdc5614p-26144149.pdf?src-supplier=Avnet+Europe; ComponentLink8URL: https://datasheet.ciiva.com/22681/11835-22681846.pdf?src-supplier=Element14; ComponentLink8Description: https://datasheet.ciiva.com/22681/11835-22681846.pdf?src-supplier=Element14; ComponentLink9URL: https://datasheet.ciiva.com/8115/fdc5614p-8115420.pdf?src-supplier=Avnet; ComponentLink9Description: https://datasheet.ciiva.com/8115/fdc5614p-8115420.pdf?src-supplier=Avnet; ComponentLink10URL: https://datasheet.ciiva.com/932/fdc5614p-932399.pdf?src-supplier=Digi-Key; ComponentLink10Description: https://datasheet.ciiva.com/932/fdc5614p-932399.pdf?src-supplier=Digi-Key; ComponentLink11URL: https://datasheet.ciiva.com/7967/fdc5614p-7967823.pdf?src-supplier=Element14; ComponentLink11Description: https://datasheet.ciiva.com/7967/fdc5614p-7967823.pdf?src-supplier=Element14; Supplier Part Number 1: FDC5614PCT-ND
pins: 1 D (in), 2 D (in), 3 G (in), 4 S (in), 5 D (in), 6 D (in)

## ICSP
designator ICSP?  Supplier Part Number 5: SAM1196-06-ND  (hidden comment: ICSP)
Supplier 1: Arrow; Supplier Part Number 1: 2699117; Supplier 2: Arrow; Supplier Part Number 2: 2699116; Supplier 3: Digi-Key; Supplier Part Number 3: SAM1185-06-ND; Supplier 4: Arrow; Supplier Part Number 4: 2699091; Supplier 5: Digi-Key
footprint ICSP
pins: 1 MISO (io), 2 5V (power), 3 SCK (io), 4 MOSI (io), 5 RESET (in), 6 GND (power)

## IOH
designator IOH?  Supplier Part Number 3: 2698789  (hidden comment: IOH)
Supplier 1: Arrow; Supplier Part Number 1: 2698803S4475693N1004; Supplier 2: Digi-Key; Supplier Part Number 2: SAM1198-10-ND; Supplier 3: Arrow
footprint Header 10x1 8.5mm (Stackable 10 pin header)
pins: 1 IO8 (io), 2 IO9 (io), 3 IO10 (io), 4 IO11 (io), 5 IO12 (io), 6 IO13 (io), 7 GND (power), 8 AREF, 9 SDA (io), 10 SCL (io)

## IOL
designator IOL?  Supplier Part Number 4: 2698925  (hidden comment: IOL)
Supplier 1: Digi-Key; Supplier Part Number 1: SAM1198-08-ND; Supplier 2: Arrow; Supplier Part Number 2: 2698939; Supplier 3: Arrow; Supplier Part Number 3: 2698940; Supplier 4: Arrow
footprint Header 8x1 8.5mm (Stackable 8 pin header)
pins: 1 IO0 (io), 2 IO1 (io), 3 IO2 (io), 4 IO3 (io), 5 IO4 (io), 6 IO5 (io), 7 IO6 (io), 8 IO7 (io)

## LTC6992-1
designator U*??
Oscillator, Silicon IC 3.81Hz ~ 1MHz TSOT-23-6; Manufacturer 1: Analog Devices; Manufacturer Part Number 1: LTC6992IS6-1#TRMPBF; Operating Supply Current: 365uA; Supplier 1: Digi-Key; Stock 1: 9940; Pricing 1: 1=4.57000, 25=3.03440, 100=2.50910, 250=2.38364 (USD); Mount: Surface Mount; Case/Package: SOT-23-6; Number of Pins: 23; Min Operating Temperature: -40°C; Max Operating Temperature: 85°C; Packaging: Tape and Reel; Package Quantity: 500; Frequency: 3.81Hz; Length: 2.9mm; Depth: 1.75mm; Radiation Hardening: No; Lead Free: Lead Free; ComponentLink1URL: https://datasheet.ciiva.com/15116/getdatasheetpartid-411031-15116193.pdf?src-supplier=Verical; ComponentLink1Description: https://datasheet.ciiva.com/15116/getdatasheetpartid-411031-15116193.pdf?src-supplier=Verical; ComponentLink2URL: https://datasheet.ciiva.com/6668/29337-6668309.pdf?src-supplier=Digi-Key; ComponentLink2Description: https://datasheet.ciiva.com/6668/29337-6668309.pdf?src-supplier=Digi-Key; ComponentLink3URL: https://datasheet.ciiva.com/6668/29337-6668312.pdf?src-supplier=Digi-Key; ComponentLink3Description: https://datasheet.ciiva.com/6668/29337-6668312.pdf?src-supplier=Digi-Key; ComponentLink4URL: https://datasheet.ciiva.com/6668/29337-6668316.pdf?src-supplier=Digi-Key; ComponentLink4Description: https://datasheet.ciiva.com/6668/29337-6668316.pdf?src-supplier=Digi-Key; ComponentLink5URL: http://datasheet.octopart.com/LTC6992IS6-1%23TRMPBF-Linear-Technology-datasheet-10978009.pdf?src-supplier=Linear+Technology; ComponentLink5Description: http://datasheet.octopart.com/LTC6992IS6-1%23TRMPBF-Linear-Technology-datasheet-10978009.pdf?src-supplier=Linear+Technology; ComponentLink6URL: http://sigma.octopart.com/57691988/technical_drawing/Linear-Technology-LTC6992IS6-1%23TRMPBF.pdf?src-supplier=Linear+Technology; ComponentLink6Description: http://sigma.octopart.com/57691988/technical_drawing/Linear-Technology-LTC6992IS6-1%23TRMPBF.pdf?src-supplier=Linear+Technology; Supplier Part Number 1: LTC6992IS6-1#TRMPBFCT-ND
pins: 1 MOD (in), 2 GND (power), 3 SET (in), 4 DIV (in), 5 V+ (in), 6 OUT (out)

## MIC5233YM5-TR
designator U??
IC REG LDO ADJ .1A SOT23-5; Manufacturer 1: Microchip Micrel; Max Input Voltage: 36V; Min Input Voltage: 2.3V; Output Voltage: 20V; Output Type: Adjustable; Dropout Voltage: 270mV; Max Output Current: 100mA; Number of Outputs: 1; Min Output Voltage: 1.24V; Polarity: Positive; Output Voltage Accuracy: 1%; Supplier 1: Digi-Key; Manufacturer Part Number 1: MIC5233YM5-TR; Stock 1: 13352; Pricing 1: 1=1.20000, 25=1.00000, 100=0.91000 (USD); RoHS: Yes; Mount: Surface Mount; Case/Package: SOT-23; Number of Pins: 5; Min Operating Temperature: -40°C; Max Operating Temperature: 125°C; Packaging: Tape and Reel; Output Current: 100mA; Number of Regulators: 1; Max Output Voltage: 20V; Package Quantity: 1; Radiation Hardening: No; REACH SVHC: No SVHC; ComponentLink1URL: https://datasheet.ciiva.com/2044/mic5233-2044736.pdf?src-supplier=Digi-Key; ComponentLink1Description: https://datasheet.ciiva.com/2044/mic5233-2044736.pdf?src-supplier=Digi-Key; ComponentLink2URL: https://datasheet.ciiva.com/16374/mic5233-16374581.pdf?src-supplier=Future+Electronics; ComponentLink2Description: https://datasheet.ciiva.com/16374/mic5233-16374581.pdf?src-supplier=Future+Electronics; ComponentLink3URL: https://datasheet.ciiva.com/23773/1670787-23773077.pdf?src-supplier=Newark; ComponentLink3Description: https://datasheet.ciiva.com/23773/1670787-23773077.pdf?src-supplier=Newark; ComponentLink4URL: https://datasheet.ciiva.com/13026/mic5233-13026150.pdf?src-supplier=Mouser; ComponentLink4Description: https://datasheet.ciiva.com/13026/mic5233-13026150.pdf?src-supplier=Mouser; ComponentLink5URL: https://datasheet.ciiva.com/26890/getdatasheetpartid-111208-26890058.pdf?src-supplier=Verical; ComponentLink5Description: https://datasheet.ciiva.com/26890/getdatasheetpartid-111208-26890058.pdf?src-supplier=Verical; ComponentLink6URL: https://datasheet.ciiva.com/2044/mic5233-2044734.pdf?src-supplier=Digi-Key; ComponentLink6Description: https://datasheet.ciiva.com/2044/mic5233-2044734.pdf?src-supplier=Digi-Key; ComponentLink7URL: https://datasheet.ciiva.com/7993/1670787-7993422.pdf?src-supplier=Element14; ComponentLink7Description: https://datasheet.ciiva.com/7993/1670787-7993422.pdf?src-supplier=Element14; ComponentLink8URL: https://datasheet.ciiva.com/2044/mic5233-2044735.pdf?src-supplier=Digi-Key; ComponentLink8Description: https://datasheet.ciiva.com/2044/mic5233-2044735.pdf?src-supplier=Digi-Key; ComponentLink9URL: https://datasheet.ciiva.com/23772/1670787-23772959.pdf?src-supplier=Newark; ComponentLink9Description: https://datasheet.ciiva.com/23772/1670787-23772959.pdf?src-supplier=Newark; Supplier Part Number 1: 576-1507-1-ND
pins: 1 IN (in), 2 GND (power), 3 EN (in), 4 ADJ (in), 5 OUT (out)

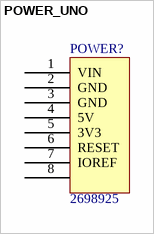
[diagram p1: symbol POWER_UNO]

## POWER_UNO
designator POWER?  Supplier Part Number 4: 2698925  (hidden comment: POWER_UNO)
Supplier 1: Digi-Key; Supplier Part Number 1: SAM1198-08-ND; Supplier 2: Arrow; Supplier Part Number 2: 2698939; Supplier 3: Arrow; Supplier Part Number 3: 2698940; Supplier 4: Arrow
footprint Header 8x1 8.5mm (Stackable 8 pin header)
pins: 1 VIN (power), 2 GND (power), 3 GND (power), 4 5V (power), 5 3V3 (power), 6 RESET, 7 IOREF (power), 8